# EAGLE library part AB18X5_RTC (library 000_ICS)
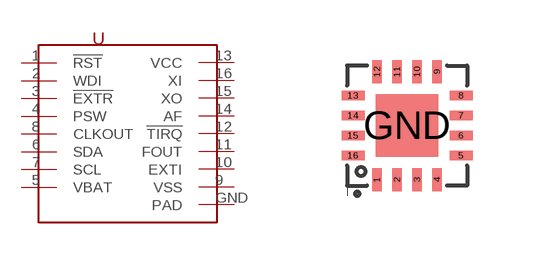
[diagram p3: symbol with the pads of UQFN16; footprint UQFN16]

Designator prefix -

## AB18X5_RTC (1PC: 1.81; DATASHEET: http://media.digikey.com/pdf/Data%20Sheets/Abracon%20Corp%20PDFs/AB08xx_Series.pdf; DIGIKEY: 535-11926-1-ND; HEIGHT: 1)  [UQFN16]
1  !RST
2  WDI
3  !EXTR
4  PSW
5  VBAT
6  SDA
7  SCL
8  CLKOUT
9  VSS
10  EXTI
11  FOUT
12  !TIRQ
13  VCC
14  AF
15  XO
16  XI
GND  PAD

## Footprint UQFN16 (pad centres in mm)
16-Lead Ultra Thin Quad Flatpack No-Leads (QUCE/F) - 3x3 mm Body [UQFN] pitch: 0.5mm pad size: 0.3x0.6mm gnd pad size: 1.7x1.7mm
smd 0.24 x 0.575: 1 -0.75,-1.35; 2 -0.25,-1.35; 3 0.25,-1.35; 4 0.75,-1.35; 9 0.75,1.35; 10 0.25,1.35; 11 -0.25,1.35; 12 -0.75,1.35
smd 0.575 x 0.24: 5 1.35,-0.75; 6 1.35,-0.25; 7 1.35,0.25; 8 1.35,0.75; 13 -1.35,0.75; 14 -1.35,0.25; 15 -1.35,-0.25; 16 -1.35,-0.75
smd 1.575 x 1.575: GND 0,0